# Altium footprint library PCB - LEADED - SOT-23 - ROHM RUC002N05.PCBLIB: 1 footprints
Each footprint in its own frame and in the unit in brackets; x right, y up, seen from the top. Pads: shape width x height; smd on the part's side, far side on the other; paste and mask are expansions set on the pad; w line width, h text height; cw(c..) or ccw(c..) is an arc to the next point about the centre after c.
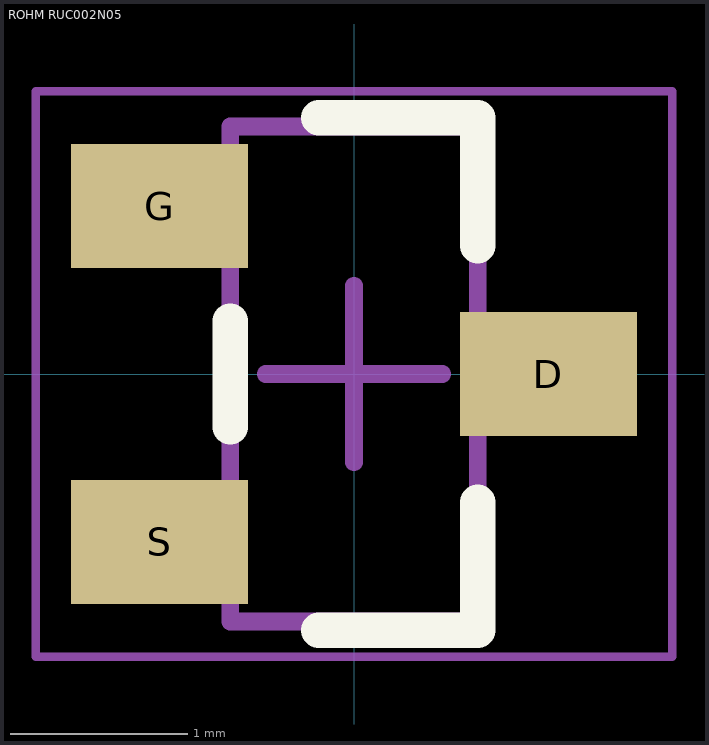
[diagram p0: the footprint, top view; thin cyan lines are the x and y axes]

## ROHM RUC002N05 [mm] "SOT23, 3-Leads, Body 2.90x2.40mm, Pitch 0.95mm, IPC Medium Density"
height 1.2
pads (3):
  rect 1x0.7 smd: D(1.1,0) G(-1.1,0.95) S(-1.1,-0.95)
Top Overlay:
  lines w0.2: -0.7,-0.3 -0.7,0.3 ; -0.2,-1.45 0.7,-1.45 0.7,-0.725 ; -0.2,1.45 0.7,1.45 0.7,0.725
Mechanical 13:
  lines w0.1: -0.7,-1.4 -0.7,1.4 0.7,1.4 0.7,-1.4 -0.7,-1.4
Mechanical 15:
  lines w0.05: -1.8,-1.6 -1.8,1.6 1.8,1.6 1.8,-1.6 -1.8,-1.6
Mechanical 2 (Mech9):
  lines w0.1: -0.5,0 0.5,0 ; 0,-0.5 0,0.5
3D body "ROHM - SST3 - SOT-23.step": height 1.2, standoff 0, extent -1.25,-1.45 1.25,1.45